# EAGLE library part SK-22D01-MG (library Switches)
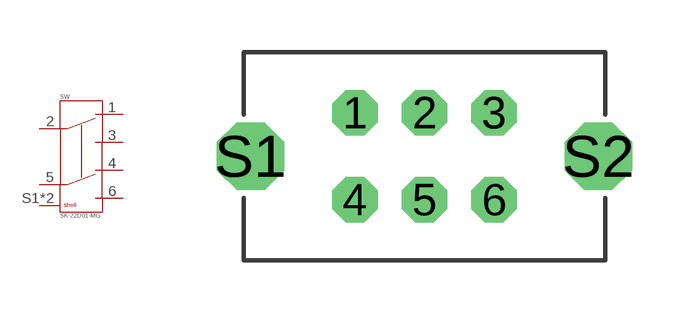
[diagram p2: symbol with the pads of SK-22D01-MG; footprint SK-22D01-MG]

Designator prefix SW

## SK-22D01-MG  [SK-22D01-MG]
1  1  pas
2  2  pas
3  3  pas
4  4  pas
5  5  pas
6  6  pas
S1  SHELL  pas
S2  SHELL  pas

## Footprint SK-22D01-MG (pad centres in mm)
drill 0.8 octagon: 1 -2,1.25; 2 0,1.25; 3 2,1.25; 4 -2,-1.25; 5 0,-1.25; 6 2,-1.25
drill 1.3 octagon: S1 -5,0; S2 5,0